# EAGLE library part ADS1115 (library elements_cs2016)
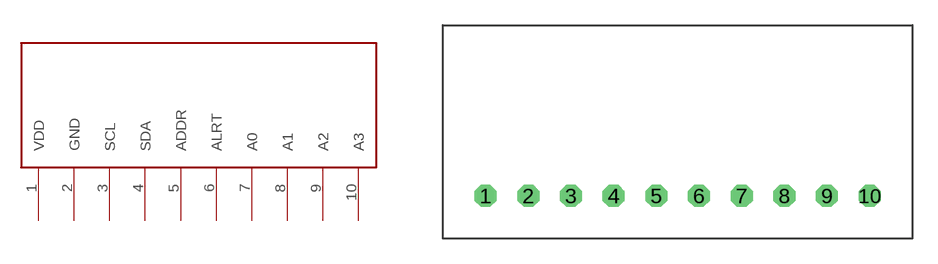
[diagram p0: symbol with the pads of ADS1115; footprint ADS1115]

Designator prefix -

## ADS1115  [ADS1115]
1  VDD
2  GND
3  SCL
4  SDA
5  ADDR
6  ALRT
7  A0
8  A1
9  A2
10  A3

## Footprint ADS1115 (pad centres in mm)
drill 0.8 octagon: 1 -10.16,-3.81; 2 -7.62,-3.81; 3 -5.08,-3.81; 4 -2.54,-3.81; 5 0,-3.81; 6 2.54,-3.81; 7 5.08,-3.81; 8 7.62,-3.81; 9 10.16,-3.81; 10 12.7,-3.81